# EAGLE library part HDAC64_VERT_20PIN (library molex)
2.54mm Pitch, H-DAC 64™ High Density Automotive Header, Dual Row, Vertical, 20 Circuits, Polarization Option 1, Gray, Tray Part Number: 30700-4200 Datasheet <http://www.molex.com/molex/products/datasheet.jsp?part=active/0307004200_PCB_HEADERS.xm>
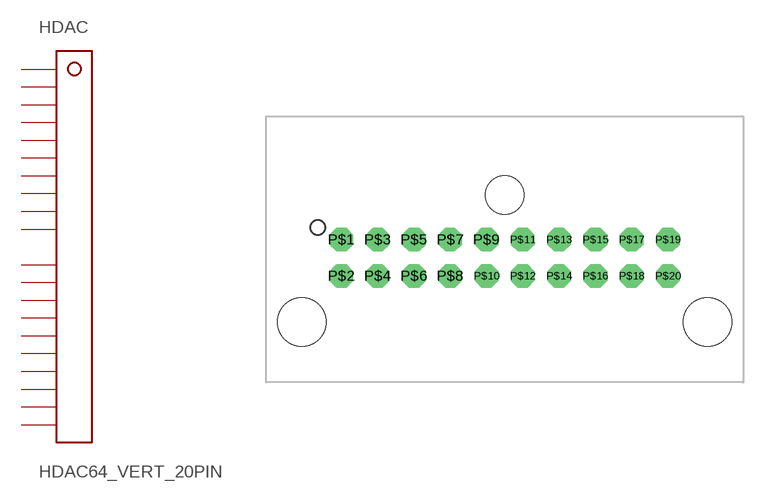
[diagram p3: symbol with the pads of HDAC64_VERT_20PIN; footprint HDAC64_VERT_20PIN]

Designator prefix HDAC

## HDAC64_VERT_20PIN30700-4122  [HDAC64_VERT_20PIN]
P$1  P$1
P$2  P$2
P$3  P$3
P$4  P$4
P$5  P$5
P$6  P$6
P$7  P$7
P$8  P$8
P$9  P$9
P$10  P$10
P$11  P$11
P$12  P$12
P$13  P$13
P$14  P$14
P$15  P$15
P$16  P$16
P$17  P$17
P$18  P$18
P$19  P$19
P$20  P$20

## Footprint HDAC64_VERT_20PIN (pad centres in mm)
drill 1.1 octagon: P$1 -11.43,0.65; P$2 -11.43,-1.89; P$3 -8.89,0.65; P$4 -8.89,-1.89; P$5 -6.35,0.65; P$6 -6.35,-1.89; P$7 -3.81,0.65; P$8 -3.81,-1.89; P$9 -1.27,0.65; P$10 -1.27,-1.89; P$11 1.27,0.65; P$12 1.27,-1.89; P$13 3.81,0.65; P$14 3.81,-1.89; P$15 6.35,0.65; P$16 6.35,-1.89; P$17 8.89,0.65; P$18 8.89,-1.89; P$19 11.43,0.65; P$20 11.43,-1.89
hole 3.4 at -14.19,-5.11
hole 3.4 at 14.19,-5.11
hole 2.7 at 0,3.76